# EAGLE library part ATTINY85-20PU (library eggfckr)
8-bit Microcontroller with In-System Programmable Flash
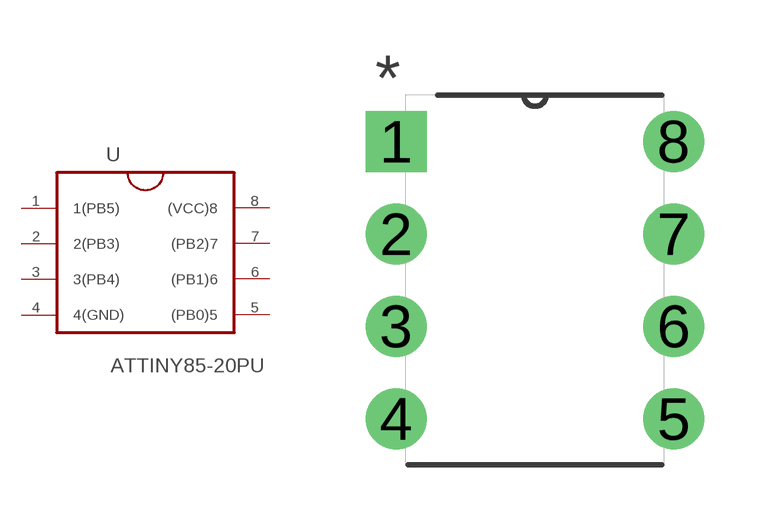
[diagram p0: symbol with the pads of DIP254P762X533-8; footprint DIP254P762X533-8]

Designator prefix U

## ATTINY85-20PU (MPN: ATTINY85-20PU; OC_FARNELL: 1455162; OC_NEWARK: 58M3796; PACKAGE: PDIP-8; SUPPLIER: Atmel)  [DIP254P762X533-8]
1  1(PB5)
2  2(PB3)
3  3(PB4)
4  4(GND)  pas
5  (PB0)5
6  (PB1)6
7  (PB2)7
8  (VCC)8  pwr

## Footprint DIP254P762X533-8 (pad centres in mm)
drill 1.118 square: 1 -7.62,7.62
drill 1.118: 2 -7.62,5.08; 3 -7.62,2.54; 4 -7.62,0; 5 0,0; 6 0,2.54; 7 0,5.08; 8 0,7.62